# Altium footprint library TSOP382x.PcbLib: 1 footprints
Each footprint in its own frame and in the unit in brackets; x right, y up, seen from the top. Pads: shape width x height; smd on the part's side, far side on the other; paste and mask are expansions set on the pad; w line width, h text height; cw(c..) or ccw(c..) is an arc to the next point about the centre after c.
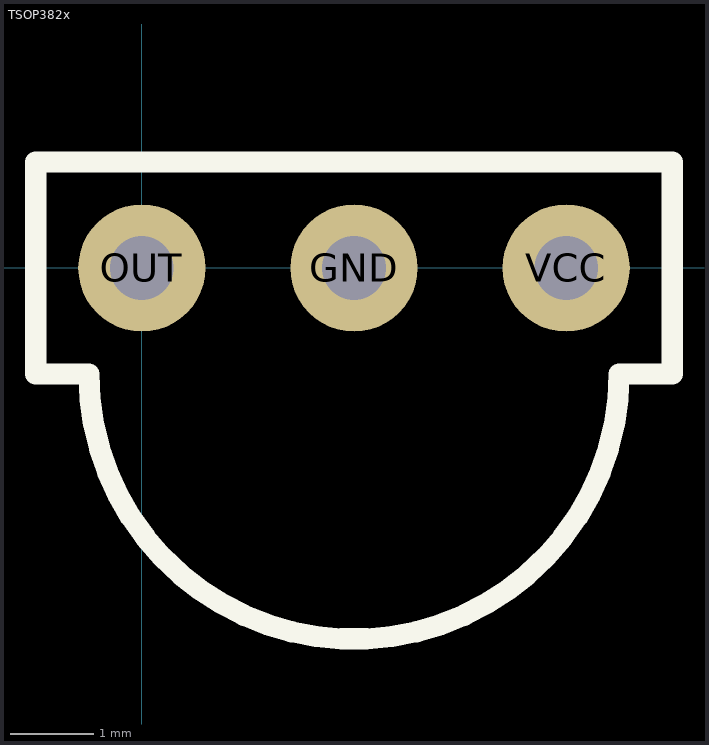
[diagram p0: the footprint, top view; thin cyan lines are the x and y axes]

## TSOP382x [mil] "Vishay Semiconductors Remote Reviever"
height 324.8
pads (3):
  round 60 hole 30: GND(100,0) OUT(0,0) VCC(200,0)
Top Overlay:
  lines w10: -50,-50 -50,50 250,50 250,-50 225,-50 cw(c100,-50) -25,-50 -50,-50